# Altium footprint library MK66FX1M0VLQ18.PcbLib: 3 footprints
Each footprint in its own frame and in the unit in brackets; x right, y up, seen from the top. Pads: shape width x height; smd on the part's side, far side on the other; paste and mask are expansions set on the pad; w line width, h text height; cw(c..) or ccw(c..) is an arc to the next point about the centre after c.
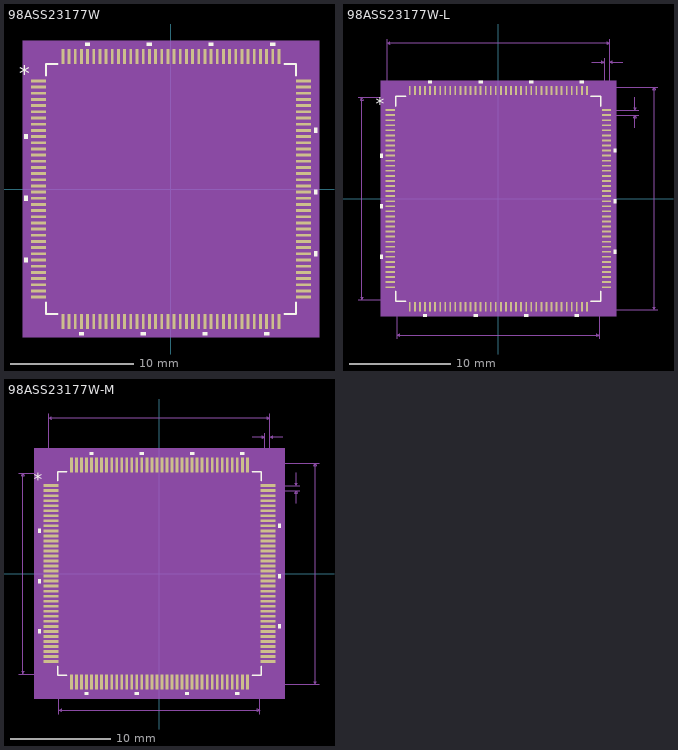
[diagram p0: the footprints below, top view; thin cyan lines are the x and y axes]

## 98ASS23177W [mil]
pads (144):
  rect 48x9 smd paste+0 mask+0: 1(-423,344.49) 2(-423,324.8) 3(-423,305.12) 4(-423,285.43) 5(-423,265.75) 6(-423,246.06) 7(-423,226.38) 8(-423,206.69) 9(-423,187.01) 10(-423,167.32) 11(-423,147.64) 12(-423,127.95) 13(-423,108.27) 14(-423,88.58) 15(-423,68.9) 16(-423,49.21) 17(-423,29.53) 18(-423,9.84) 19(-423,-9.84) 20(-423,-29.53) 21(-423,-49.21) 22(-423,-68.9) 23(-423,-88.58) 24(-423,-108.27) 25(-423,-127.95) 26(-423,-147.64) 27(-423,-167.32) 28(-423,-187.01) 29(-423,-206.69) 30(-423,-226.38) 31(-423,-246.06) 32(-423,-265.75) 33(-423,-285.43) 34(-423,-305.12) 35(-423,-324.8) 36(-423,-344.49) 73(423,-344.49) 74(423,-324.8) 75(423,-305.12) 76(423,-285.43) 77(423,-265.75) 78(423,-246.06) 79(423,-226.38) 80(423,-206.69) 81(423,-187.01) 82(423,-167.32) 83(423,-147.64) 84(423,-127.95) 85(423,-108.27) 86(423,-88.58) 87(423,-68.9) 88(423,-49.21) 89(423,-29.53) 90(423,-9.84) 91(423,9.84) 92(423,29.53) 93(423,49.21) 94(423,68.9) 95(423,88.58) 96(423,108.27) 97(423,127.95) 98(423,147.64) 99(423,167.32) 100(423,187.01) 101(423,206.69) 102(423,226.38) 103(423,246.06) 104(423,265.75) 105(423,285.43) 106(423,305.12) 107(423,324.8) 108(423,344.49)
  rect 9x48 smd paste+0 mask+0: 37(-344.49,-423) 38(-324.8,-423) 39(-305.12,-423) 40(-285.43,-423) 41(-265.75,-423) 42(-246.06,-423) 43(-226.38,-423) 44(-206.69,-423) 45(-187.01,-423) 46(-167.32,-423) 47(-147.64,-423) 48(-127.95,-423) 49(-108.27,-423) 50(-88.58,-423) 51(-68.9,-423) 52(-49.21,-423) 53(-29.53,-423) 54(-9.84,-423) 55(9.84,-423) 56(29.53,-423) 57(49.21,-423) 58(68.9,-423) 59(88.58,-423) 60(108.27,-423) 61(127.95,-423) 62(147.64,-423) 63(167.32,-423) 64(187.01,-423) 65(206.69,-423) 66(226.38,-423) 67(246.06,-423) 68(265.75,-423) 69(285.43,-423) 70(305.12,-423) 71(324.8,-423) 72(344.49,-423) 109(344.49,423) 110(324.8,423) 111(305.12,423) 112(285.43,423) 113(265.75,423) 114(246.06,423) 115(226.38,423) 116(206.69,423) 117(187.01,423) 118(167.32,423) 119(147.64,423) 120(127.95,423) 121(108.27,423) 122(88.58,423) 123(68.9,423) 124(49.21,423) 125(29.53,423) 126(9.84,423) 127(-9.84,423) 128(-29.53,423) 129(-49.21,423) 130(-68.9,423) 131(-88.58,423) 132(-108.27,423) 133(-127.95,423) 134(-147.64,423) 135(-167.32,423) 136(-187.01,423) 137(-206.69,423) 138(-226.38,423) 139(-246.06,423) 140(-265.75,423) 141(-285.43,423) 142(-305.12,423) 143(-324.8,423) 144(-344.49,423)
Top Overlay:
  region: -258.25,457 -273.25,457 -273.25,467 -258.25,467
  region: -61.4,457 -76.4,457 -76.4,467 -61.4,467
  region: 135.45,457 120.45,457 120.45,467 135.45,467
  region: 332.3,457 317.3,457 317.3,467 332.3,467
  region: 457,194.51 467,194.51 467,179.51 457,179.51
  region: 457,-2.34 467,-2.34 467,-17.34 457,-17.34
  region: 457,-199.19 467,-199.19 467,-214.19 457,-214.19
  region: 312.62,-457 297.62,-457 297.62,-467 312.62,-467
  region: 115.77,-457 100.77,-457 100.77,-467 115.77,-467
  region: -81.08,-457 -96.08,-457 -96.08,-467 -81.08,-467
  region: -277.93,-457 -292.93,-457 -292.93,-467 -277.93,-467
  region: -457,-218.88 -467,-218.88 -467,-233.88 -457,-233.88
  region: -457,-22.03 -467,-22.03 -467,-37.03 -457,-37.03
  region: -457,174.82 -467,174.82 -467,159.82 -457,159.82
  lines w6: -398.5,-362.08 -398.5,-398.5 -362.08,-398.5 ; -398.5,362.08 -398.5,398.5 -362.08,398.5 ; 362.08,-398.5 398.5,-398.5 398.5,-362.08 ; 362.08,398.5 398.5,398.5 398.5,362.08
  text "*" at -484.5,344.33 h50
Mechanical 5:
  region: 472,-472 -472,-472 -472,472 472,472
Mechanical 13:
  drawing of 581 lines, arcs and shapes, not listed
  text "*" at -391,329.33 h50
Mechanical 15:
  region: -358.99,-403.5 -403.5,-403.5 -403.5,-358.99 -457,-358.99 -457,358.99 -403.5,358.99 -403.5,403.5 -358.99,403.5 -358.99,457 358.99,457 358.99,403.5 403.5,403.5 403.5,358.99 457,358.99 457,-358.99 403.5,-358.99 403.5,-403.5 358.99,-403.5 358.99,-457 -358.99,-457
  lines w6: -457,-358.99 -457,358.99 -403.5,358.99 -403.5,403.5 -358.99,403.5 -358.99,457 358.99,457 358.99,403.5 403.5,403.5 403.5,358.99 457,358.99 457,-358.99 403.5,-358.99 403.5,-403.5 358.99,-403.5 358.99,-457 -358.99,-457 -358.99,-403.5 -403.5,-403.5 -403.5,-358.99 -457,-358.99
3D body: height 10, standoff 0, extent 0,0 10,10
3D body "98ASS23177W.step": height 63.11, standoff 0, extent -432.98,-432.99 433,433

## 98ASS23177W-L [mil]
pads (144):
  rect 36x7 smd paste+0 mask+0: 1(-421,344.49) 2(-421,324.8) 3(-421,305.12) 4(-421,285.43) 5(-421,265.75) 6(-421,246.06) 7(-421,226.38) 8(-421,206.69) 9(-421,187.01) 10(-421,167.32) 11(-421,147.64) 12(-421,127.95) 13(-421,108.27) 14(-421,88.58) 15(-421,68.9) 16(-421,49.21) 17(-421,29.53) 18(-421,9.84) 19(-421,-9.84) 20(-421,-29.53) 21(-421,-49.21) 22(-421,-68.9) 23(-421,-88.58) 24(-421,-108.27) 25(-421,-127.95) 26(-421,-147.64) 27(-421,-167.32) 28(-421,-187.01) 29(-421,-206.69) 30(-421,-226.38) 31(-421,-246.06) 32(-421,-265.75) 33(-421,-285.43) 34(-421,-305.12) 35(-421,-324.8) 36(-421,-344.49) 73(421,-344.49) 74(421,-324.8) 75(421,-305.12) 76(421,-285.43) 77(421,-265.75) 78(421,-246.06) 79(421,-226.38) 80(421,-206.69) 81(421,-187.01) 82(421,-167.32) 83(421,-147.64) 84(421,-127.95) 85(421,-108.27) 86(421,-88.58) 87(421,-68.9) 88(421,-49.21) 89(421,-29.53) 90(421,-9.84) 91(421,9.84) 92(421,29.53) 93(421,49.21) 94(421,68.9) 95(421,88.58) 96(421,108.27) 97(421,127.95) 98(421,147.64) 99(421,167.32) 100(421,187.01) 101(421,206.69) 102(421,226.38) 103(421,246.06) 104(421,265.75) 105(421,285.43) 106(421,305.12) 107(421,324.8) 108(421,344.49)
  rect 7x36 smd paste+0 mask+0: 37(-344.49,-421) 38(-324.8,-421) 39(-305.12,-421) 40(-285.43,-421) 41(-265.75,-421) 42(-246.06,-421) 43(-226.38,-421) 44(-206.69,-421) 45(-187.01,-421) 46(-167.32,-421) 47(-147.64,-421) 48(-127.95,-421) 49(-108.27,-421) 50(-88.58,-421) 51(-68.9,-421) 52(-49.21,-421) 53(-29.53,-421) 54(-9.84,-421) 55(9.84,-421) 56(29.53,-421) 57(49.21,-421) 58(68.9,-421) 59(88.58,-421) 60(108.27,-421) 61(127.95,-421) 62(147.64,-421) 63(167.32,-421) 64(187.01,-421) 65(206.69,-421) 66(226.38,-421) 67(246.06,-421) 68(265.75,-421) 69(285.43,-421) 70(305.12,-421) 71(324.8,-421) 72(344.49,-421) 109(344.49,421) 110(324.8,421) 111(305.12,421) 112(285.43,421) 113(265.75,421) 114(246.06,421) 115(226.38,421) 116(206.69,421) 117(187.01,421) 118(167.32,421) 119(147.64,421) 120(127.95,421) 121(108.27,421) 122(88.58,421) 123(68.9,421) 124(49.21,421) 125(29.53,421) 126(9.84,421) 127(-9.84,421) 128(-29.53,421) 129(-49.21,421) 130(-68.9,421) 131(-88.58,421) 132(-108.27,421) 133(-127.95,421) 134(-147.64,421) 135(-167.32,421) 136(-187.01,421) 137(-206.69,421) 138(-226.38,421) 139(-246.06,421) 140(-265.75,421) 141(-285.43,421) 142(-305.12,421) 143(-324.8,421) 144(-344.49,421)
Top Overlay:
  region: -258.25,449 -273.25,449 -273.25,459 -258.25,459
  region: -61.4,449 -76.4,449 -76.4,459 -61.4,459
  region: 135.45,449 120.45,449 120.45,459 135.45,459
  region: 332.3,449 317.3,449 317.3,459 332.3,459
  region: 449,194.51 459,194.51 459,179.51 449,179.51
  region: 449,-2.34 459,-2.34 459,-17.34 449,-17.34
  region: 449,-199.19 459,-199.19 459,-214.19 449,-214.19
  region: 312.62,-449 297.62,-449 297.62,-459 312.62,-459
  region: 115.77,-449 100.77,-449 100.77,-459 115.77,-459
  region: -81.08,-449 -96.08,-449 -96.08,-459 -81.08,-459
  region: -277.93,-449 -292.93,-449 -292.93,-459 -277.93,-459
  region: -449,-218.88 -459,-218.88 -459,-233.88 -449,-233.88
  region: -449,-22.03 -459,-22.03 -459,-37.03 -449,-37.03
  region: -449,174.82 -459,174.82 -459,159.82 -449,159.82
  lines w6: -398.5,-360.29 -398.5,-398.5 -360.29,-398.5 ; -398.5,360.29 -398.5,398.5 -360.29,398.5 ; 360.29,-398.5 398.5,-398.5 398.5,-360.29 ; 360.29,398.5 398.5,398.5 398.5,360.29
  text "*" at -476.5,344.33 h50
Mechanical 5:
  region: 458,-458 -458,-458 -458,458 458,458
Mechanical 7:
  lines w1: -546,-393.5 -344.49,-393.5 ; -546,393.5 -344.49,393.5 ; -433,344.49 -433,621 ; -393.5,-546 -393.5,-344.49 ; 344.49,-433 621,-433 ; 344.49,433 621,433 ; 363,531 413,531 ; 393.5,-546 393.5,-344.49 ; 413,344.49 413,546 ; 421,324.8 546,324.8 ; 421,344.49 546,344.49 ; 433,546 433,344.49 433,621 ; 483,531 433,531 ; 531,274.8 531,324.8 ; 531,394.49 531,344.49 ; -531,-393.5 -526,-383.5 -536,-383.5 -531,-393.5 ; -531,-393.5 -531,393.5 ; -531,393.5 -526,383.5 -536,383.5 -531,393.5 ; -433,606 -423,601 -423,611 -433,606 ; -433,606 433,606 ; -393.5,-531 -383.5,-536 -383.5,-526 -393.5,-531 ; -393.5,-531 393.5,-531 ; 393.5,-531 383.5,-536 383.5,-526 393.5,-531 ; 413,531 403,526 403,536 413,531 ; 433,531 443,526 443,536 433,531 ; 433,606 423,601 423,611 433,606 ; 531,324.8 536,314.8 526,314.8 531,324.8 ; 531,344.49 536,354.49 526,354.49 531,344.49 ; 606,-433 611,-423 601,-423 606,-433 ; 606,-433 606,433 ; 606,433 611,423 601,423 606,433
  text "0.866in/21.996mm" at 626,-12.5 h25
  text "0.787in/19.99mm" at -738.5,-12.5 h25
  text "0.787in/19.99mm" at -93.75,-576 h25
  text "0.866in/21.996mm" at -100,626 h25
  text "0.02in/0.508mm" at 335.5,551 h25
  text "0.02in/0.5mm" at 551,322.15 h25
  text "Alt 2 Padstyle: OX90Y60D30P" at -337.5,-981 h50
  text "Alt 1 Padstyle: OX60Y90D30P" at -337.5,-921 h50
  text "Default Vert Padstyle: RX7Y36D0T" at -400,-741 h50
  text "Default Horiz Padstyle: RX7Y36D0T" at -412.5,-681 h50
Mechanical 13:
  drawing of 581 lines, arcs and shapes, not listed
  text "*" at -391,329.33 h50
Mechanical 15:
  region: -351.99,-397.5 -397.5,-397.5 -397.5,-351.99 -443,-351.99 -443,351.99 -397.5,351.99 -397.5,397.5 -351.99,397.5 -351.99,443 351.99,443 351.99,397.5 397.5,397.5 397.5,351.99 443,351.99 443,-351.99 397.5,-351.99 397.5,-397.5 351.99,-397.5 351.99,-443 -351.99,-443
  lines w6: -443,-351.99 -443,351.99 -397.5,351.99 -397.5,397.5 -351.99,397.5 -351.99,443 351.99,443 351.99,397.5 397.5,397.5 397.5,351.99 443,351.99 443,-351.99 397.5,-351.99 397.5,-397.5 351.99,-397.5 351.99,-443 -351.99,-443 -351.99,-397.5 -397.5,-397.5 -397.5,-351.99 -443,-351.99
3D body: height 10, standoff 0, extent 0,0 10,10

## 98ASS23177W-M [mil]
pads (144):
  rect 60x11 smd paste+0 mask+0: 1(-425,344.49) 2(-425,324.8) 3(-425,305.12) 4(-425,285.43) 5(-425,265.75) 6(-425,246.06) 7(-425,226.38) 8(-425,206.69) 9(-425,187.01) 10(-425,167.32) 11(-425,147.64) 12(-425,127.95) 13(-425,108.27) 14(-425,88.58) 15(-425,68.9) 16(-425,49.21) 17(-425,29.53) 18(-425,9.84) 19(-425,-9.84) 20(-425,-29.53) 21(-425,-49.21) 22(-425,-68.9) 23(-425,-88.58) 24(-425,-108.27) 25(-425,-127.95) 26(-425,-147.64) 27(-425,-167.32) 28(-425,-187.01) 29(-425,-206.69) 30(-425,-226.38) 31(-425,-246.06) 32(-425,-265.75) 33(-425,-285.43) 34(-425,-305.12) 35(-425,-324.8) 36(-425,-344.49) 73(425,-344.49) 74(425,-324.8) 75(425,-305.12) 76(425,-285.43) 77(425,-265.75) 78(425,-246.06) 79(425,-226.38) 80(425,-206.69) 81(425,-187.01) 82(425,-167.32) 83(425,-147.64) 84(425,-127.95) 85(425,-108.27) 86(425,-88.58) 87(425,-68.9) 88(425,-49.21) 89(425,-29.53) 90(425,-9.84) 91(425,9.84) 92(425,29.53) 93(425,49.21) 94(425,68.9) 95(425,88.58) 96(425,108.27) 97(425,127.95) 98(425,147.64) 99(425,167.32) 100(425,187.01) 101(425,206.69) 102(425,226.38) 103(425,246.06) 104(425,265.75) 105(425,285.43) 106(425,305.12) 107(425,324.8) 108(425,344.49)
  rect 11x60 smd paste+0 mask+0: 37(-344.49,-425) 38(-324.8,-425) 39(-305.12,-425) 40(-285.43,-425) 41(-265.75,-425) 42(-246.06,-425) 43(-226.38,-425) 44(-206.69,-425) 45(-187.01,-425) 46(-167.32,-425) 47(-147.64,-425) 48(-127.95,-425) 49(-108.27,-425) 50(-88.58,-425) 51(-68.9,-425) 52(-49.21,-425) 53(-29.53,-425) 54(-9.84,-425) 55(9.84,-425) 56(29.53,-425) 57(49.21,-425) 58(68.9,-425) 59(88.58,-425) 60(108.27,-425) 61(127.95,-425) 62(147.64,-425) 63(167.32,-425) 64(187.01,-425) 65(206.69,-425) 66(226.38,-425) 67(246.06,-425) 68(265.75,-425) 69(285.43,-425) 70(305.12,-425) 71(324.8,-425) 72(344.49,-425) 109(344.49,425) 110(324.8,425) 111(305.12,425) 112(285.43,425) 113(265.75,425) 114(246.06,425) 115(226.38,425) 116(206.69,425) 117(187.01,425) 118(167.32,425) 119(147.64,425) 120(127.95,425) 121(108.27,425) 122(88.58,425) 123(68.9,425) 124(49.21,425) 125(29.53,425) 126(9.84,425) 127(-9.84,425) 128(-29.53,425) 129(-49.21,425) 130(-68.9,425) 131(-88.58,425) 132(-108.27,425) 133(-127.95,425) 134(-147.64,425) 135(-167.32,425) 136(-187.01,425) 137(-206.69,425) 138(-226.38,425) 139(-246.06,425) 140(-265.75,425) 141(-285.43,425) 142(-305.12,425) 143(-324.8,425) 144(-344.49,425)
Top Overlay:
  region: -465,174.82 -475,174.82 -475,159.82 -465,159.82
  region: -465,-22.03 -475,-22.03 -475,-37.03 -465,-37.03
  region: -465,-218.88 -475,-218.88 -475,-233.88 -465,-233.88
  region: -277.93,-465 -292.93,-465 -292.93,-475 -277.93,-475
  region: -81.08,-465 -96.08,-465 -96.08,-475 -81.08,-475
  region: 115.77,-465 100.77,-465 100.77,-475 115.77,-475
  region: 312.62,-465 297.62,-465 297.62,-475 312.62,-475
  region: 465,-199.19 475,-199.19 475,-214.19 465,-214.19
  region: 465,-2.34 475,-2.34 475,-17.34 465,-17.34
  region: 465,194.51 475,194.51 475,179.51 465,179.51
  region: 332.3,465 317.3,465 317.3,475 332.3,475
  region: 135.45,465 120.45,465 120.45,475 135.45,475
  region: -61.4,465 -76.4,465 -76.4,475 -61.4,475
  region: -258.25,465 -273.25,465 -273.25,475 -258.25,475
  lines w6: -398.5,-363.09 -398.5,-398.5 -363.09,-398.5 ; -398.5,363.09 -398.5,398.5 -363.09,398.5 ; 363.09,-398.5 398.5,-398.5 398.5,-363.09 ; 363.09,398.5 398.5,398.5 398.5,363.09
  text "*" at -492.5,344.33 h50
Mechanical 5:
  region: 490,-490 -490,-490 -490,490 490,490
Mechanical 7:
  lines w1: -550,-393.5 -344.49,-393.5 ; -550,393.5 -344.49,393.5 ; -433,344.49 -433,625 ; -393.5,-550 -393.5,-344.49 ; 344.49,-433 625,-433 ; 344.49,433 625,433 ; 363,535 413,535 ; 393.5,-550 393.5,-344.49 ; 413,344.49 413,550 ; 425,324.8 550,324.8 ; 425,344.49 550,344.49 ; 433,550 433,344.49 433,625 ; 483,535 433,535 ; 535,274.8 535,324.8 ; 535,394.49 535,344.49 ; -535,-393.5 -535,393.5 ; -535,-393.5 -540,-383.5 -530,-383.5 -535,-393.5 ; -535,393.5 -540,383.5 -530,383.5 -535,393.5 ; -433,610 433,610 ; -433,610 -423,615 -423,605 -433,610 ; -393.5,-535 393.5,-535 ; -393.5,-535 -383.5,-530 -383.5,-540 -393.5,-535 ; 393.5,-535 383.5,-530 383.5,-540 393.5,-535 ; 413,535 403,540 403,530 413,535 ; 433,535 443,540 443,530 433,535 ; 433,610 423,615 423,605 433,610 ; 535,324.8 530,314.8 540,314.8 535,324.8 ; 535,344.49 530,354.49 540,354.49 535,344.49 ; 610,-433 610,433 ; 610,-433 605,-423 615,-423 610,-433 ; 610,433 605,423 615,423 610,433
  text "Default Horiz Padstyle: RX11Y60D0T" at -425,-685 h50
  text "Default Vert Padstyle: RX11Y60D0T" at -412.5,-745 h50
  text "Alt 1 Padstyle: OX60Y90D30P" at -337.5,-925 h50
  text "Alt 2 Padstyle: OX90Y60D30P" at -337.5,-985 h50
  text "0.02in/0.5mm" at 555,322.15 h25
  text "0.02in/0.508mm" at 335.5,555 h25
  text "0.866in/21.996mm" at -100,630 h25
  text "0.787in/19.99mm" at -93.75,-580 h25
  text "0.787in/19.99mm" at -742.5,-12.5 h25
  text "0.866in/21.996mm" at 630,-12.5 h25
Mechanical 13:
  drawing of 581 lines, arcs and shapes, not listed
  text "*" at -391,329.33 h50
Mechanical 15:
  region: -369.99,-413.5 -413.5,-413.5 -413.5,-369.99 -475,-369.99 -475,369.99 -413.5,369.99 -413.5,413.5 -369.99,413.5 -369.99,475 369.99,475 369.99,413.5 413.5,413.5 413.5,369.99 475,369.99 475,-369.99 413.5,-369.99 413.5,-413.5 369.99,-413.5 369.99,-475 -369.99,-475
  lines w6: -475,-369.99 -413.5,-369.99 -413.5,-413.5 -369.99,-413.5 -369.99,-475 369.99,-475 369.99,-413.5 413.5,-413.5 413.5,-369.99 475,-369.99 475,369.99 413.5,369.99 413.5,413.5 369.99,413.5 369.99,475 -369.99,475 -369.99,413.5 -413.5,413.5 -413.5,369.99 -475,369.99 -475,-369.99
3D body "98ASS23177W-M.step": height 63.11, standoff 0, extent -432.99,-432.98 433,433
3D body: height 10, standoff 0, extent 0,0 10,10